# EAGLE library part ICSP (library work)
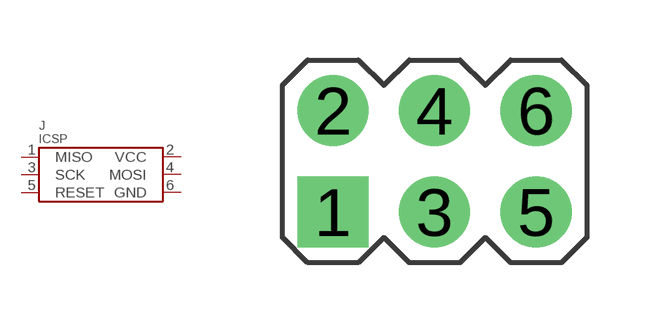
[diagram p8: symbol with the pads of M03X2; footprint M03X2]

Designator prefix J

## ICSP  [M03X2]
1  MISO
2  VCC
3  SCK
4  MOSI
5  RESET
6  GND

## Footprint M03X2 (pad centres in mm)
drill 0.9 pad 1.778 square: 1 -2.54,-1.27
drill 0.9 pad 1.778: 2 -2.54,1.27; 3 0,-1.27; 4 0,1.27; 5 2.54,-1.27; 6 2.54,1.27